# Altium footprint library SIM.PcbLib: 4 footprints
Each footprint in its own frame and in the unit in brackets; x right, y up, seen from the top. Pads: shape width x height; smd on the part's side, far side on the other; paste and mask are expansions set on the pad; w line width, h text height; cw(c..) or ccw(c..) is an arc to the next point about the centre after c.
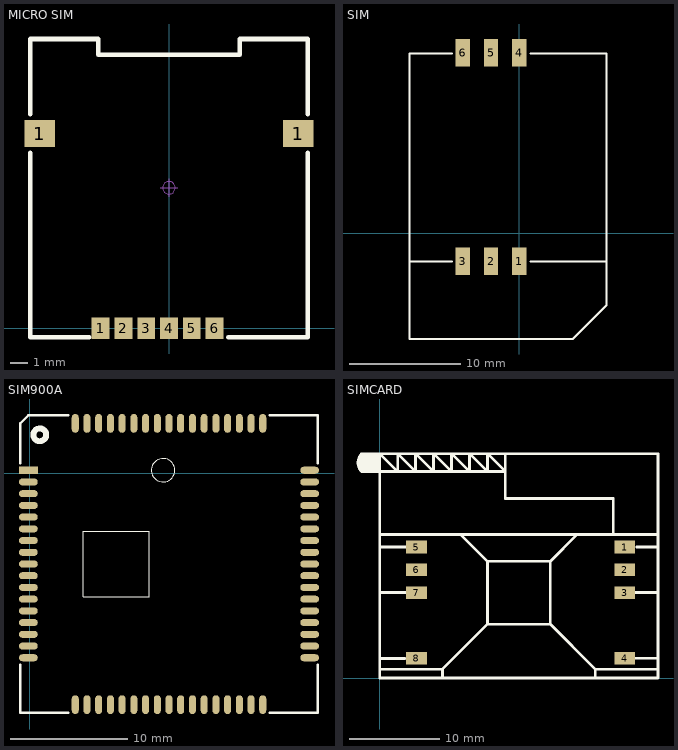
[diagram p0: the footprints below, top view; thin cyan lines are the x and y axes]

## MICRO SIM [mm] "16.30mm*14.66mm*1.8mm(长*宽*厚）"
pads (8):
  rect 1.7x1.5 smd: 1(-7.2,10.85) 1(7.2,10.85)
  rect 1x1.2 smd: 1(-3.81,0) 2(-2.54,0) 3(-1.27,0) 4(0,0) 5(1.27,0) 6(2.54,0)
Top Overlay:
  lines w0.254: -7.747,9.779 -7.747,-0.508 -4.445,-0.508 ; -7.747,11.938 -7.747,16.129 -3.937,16.129 -3.937,15.24 3.937,15.24 3.937,16.129 7.747,16.129 7.747,11.938 ; 3.302,-0.508 7.747,-0.508 7.747,9.779
Mechanical 15:
  circle w0.05: c0,7.83 r0.35
  lines w0.05: -0.5,7.83 0.5,7.83 ; 0,7.33 0,8.33
3D body "MICRO SIM.STEP": height 1.85, standoff 0.04, extent -7.58,-0.3 7.58,15.96

## SIM [mm]
pads (6):
  rect 1.3x2.5 smd: 1(0,-2.5) 2(-2.55,-2.5) 3(-5.1,-2.5) 4(0,16.306) 5(-2.55,16.306) 6(-5.1,16.306)
Top Overlay:
  lines w0.203: -9.906,-9.525 -9.906,16.25 -6.102,16.25 ; -9.906,-2.54 -6.096,-2.54 ; -9.895,-9.525 3.175,-9.525 ; 1.016,-2.54 7.874,-2.54 ; 1.022,16.25 7.874,16.25 7.874,-6.13 ; 2.54,-9.525 4.826,-9.525 7.874,-6.477 7.874,-5.715 ; 7.874,-5.461 7.874,-1.524

## SIM900A [mm] "SIM900A封装"
pads (68):
  rect 1.6x0.6 smd: 1(-0.105,0.254)
  oval 1.6x0.6 smd: 2(-0.105,-0.746) 3(-0.105,-1.746) 4(-0.105,-2.746) 5(-0.105,-3.746) 6(-0.105,-4.746) 7(-0.105,-5.746) 8(-0.105,-6.746) 9(-0.105,-7.746) 10(-0.105,-8.746) 11(-0.105,-9.746) 12(-0.105,-10.746) 13(-0.105,-11.746) 14(-0.105,-12.746) 15(-0.105,-13.746) 16(-0.105,-14.746) 17(-0.105,-15.746) 35(23.895,-15.746) 36(23.895,-14.746) 37(23.895,-13.746) 38(23.895,-12.746) 39(23.895,-11.746) 40(23.895,-10.746) 41(23.895,-9.746) 42(23.895,-8.746) 43(23.895,-7.746) 44(23.895,-6.746) 45(23.895,-5.746) 46(23.895,-4.746) 47(23.895,-3.746) 48(23.895,-2.746) 49(23.895,-1.746) 50(23.895,-0.746) 51(23.895,0.254)
  oval 0.6x1.6 smd: 18(3.895,-19.746) 19(4.895,-19.746) 20(5.895,-19.746) 21(6.895,-19.746) 22(7.895,-19.746) 23(8.895,-19.746) 24(9.895,-19.746) 25(10.895,-19.746) 26(11.895,-19.746) 27(12.895,-19.746) 28(13.895,-19.746) 29(14.895,-19.746) 30(15.895,-19.746) 31(16.895,-19.746) 32(17.895,-19.746) 33(18.895,-19.746) 34(19.895,-19.746) 52(19.895,4.254) 53(18.895,4.254) 54(17.895,4.254) 55(16.895,4.254) 56(15.895,4.254) 57(14.895,4.254) 58(13.895,4.254) 59(12.895,4.254) 60(11.895,4.254) 61(10.895,4.254) 62(9.895,4.254) 63(8.895,4.254) 64(7.895,4.254) 65(6.895,4.254) 66(5.895,4.254) 67(4.895,4.254) 68(3.895,4.254)
Top Overlay:
  circle w0.1: c11.395,0.254 r1
  circle w0.5: c0.872,3.277 r0.547
  lines w0.1: 4.595,-10.546 10.195,-10.546 10.195,-4.946 4.595,-4.946 4.595,-10.546
  lines w0.2: -0.805,-16.346 -0.805,-20.446 3.295,-20.446 ; -0.805,0.854 -0.805,4.254 -0.105,4.954 3.295,4.954 ; 20.495,-20.446 24.595,-20.446 24.595,-16.346 ; 20.495,4.954 24.595,4.954 24.595,0.854
3D body "User Library-SIM900.STEP": height 3.02, standoff 0, extent -0.062,-19.747 23.938,4.253

## SIMCARD [mm]
pads (8):
  rect 2.3x1.4 smd: 1(27.3,14.6) 2(27.3,12.06) 3(27.3,9.52) 4(27.3,2.2) 5(4.1,14.6) 6(4.1,12.06) 7(4.1,9.52) 8(4.1,2.2)
Top Overlay:
  lines w0.3: -2.184,23.52 -2.184,24.359 ; -1.886,25 0.076,25 ; -1.778,23.038 -1.778,24.892 ; -1.549,23.114 -1.549,24.943 ; -1.27,23.165 -1.27,24.841 ; -1,23 -1,25 ; -0.813,23.114 -0.813,24.74 ; -0.559,23.114 -0.559,24.917 ; -0.305,23.063 -0.305,24.765 -0.127,24.765 ; 0,1 7,1 ; 0,16 9,16 ; 0.005,14.6 2.845,14.6 ; 0.025,2.184 2.794,2.184 ; 0.051,9.525 2.896,9.525 ; 7,0 7,1 ; 14,24.846 14,23 ; 24,0 24,1 ; 28.448,2.21 30.861,2.21 ; 28.524,9.525 30.975,9.525 ; 28.646,14.6 30.954,14.6 ; 31,1 24,1 ; 31,16 26,16 ; -2,23 cw(c-1,24) -2,25 -2,23 ; -2,23 0,23 ; 0,23 0,25 ; 0,23 14,23 ; 0,23 0,0 31,0 31,25 0,25 ; 0,25 2,23 2,25 4,23 4,25 6,23 6,25 ; 6,25 8,23 8,25 10,23 10,25 12,23 12,25 14,23 ; 6,25 6,25 ; 7,1 12,6 ; 9,16 12,13 ; 9,16 22,16 ; 12,6 12,13 ; 12,6 19,6 ; 12,13 19,13 ; 14,23 14,20 26,20 26,16 ; 19,6 19,13 ; 19,6 24,1 ; 19,13 22,16 ; 22,16 26,16